# EAGLE library part NEO2100_SOCKET_HTOL (library neofocal)
Neo2100 Plastronics socket P/N: 24QN50H14040-E
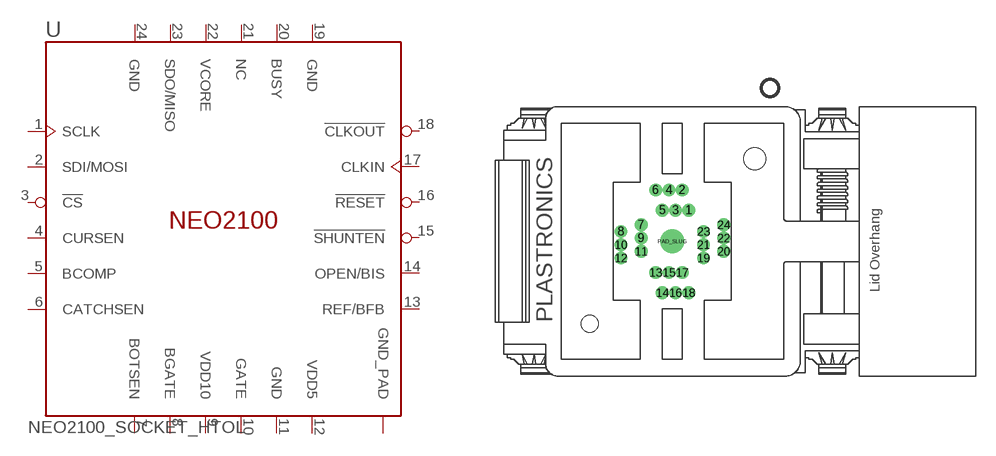
[diagram p7: symbol with the pads of PLASTRONICS_2100_24QN50H14040-E; footprint PLASTRONICS_2100_24QN50H14040-E]

Designator prefix U

## NEO2100_SOCKET_HTOL  [PLASTRONICS_2100_24QN50H14040-E]
1  SCLK  in
2  SDI/MOSI  in
3  !CS  in
4  CURSEN  in
5  BCOMP
6  CATCHSEN  in
7  BOTSEN  in
8  BGATE  out
9  VDD10  pwr
10  GATE  out
11  GND  pwr
12  VDD5  pwr
13  REF/BFB  in
14  OPEN/BIS  in
15  !SHUNTEN  in
16  !RESET  in
17  CLKIN  in
18  !CLKOUT  out
19  GND  pwr
20  BUSY  out
21  NC
22  VCORE  sup
23  SDO/MISO  out
24  GND  pwr
PAD_SLUG  GND_PAD  pwr

## Footprint PLASTRONICS_2100_24QN50H14040-E (pad centres in mm)
drill 0.457: 1 1.245,2.349; 2 0.744,3.873; 3 0.244,2.349; 4 -0.257,3.873; 5 -0.757,2.349; 6 -1.257,3.873; 7 -2.349,1.245; 8 -3.873,0.744; 9 -2.349,0.244; 10 -3.873,-0.257; 11 -2.349,-0.757; 12 -3.873,-1.257; 13 -1.257,-2.349; 14 -0.757,-3.873; 15 -0.257,-2.349; 16 0.244,-3.873; 17 0.744,-2.349; 18 1.245,-3.873; 19 2.349,-1.257; 20 3.873,-0.757; 21 2.349,-0.257; 22 3.873,0.244; 23 2.349,0.744; 24 3.873,1.245
drill 1.219: PAD_SLUG 0,0
hole 1.27 at -6.223,-6.223
hole 1.676 at 6.223,6.223